# Altium schematic symbol library SCH - POWER - SWITCHMODE - TI TPS63700_DRC_10.SchLib: 1 symbol
Pins are listed as number, name and electrical type; pins without a type are passive.

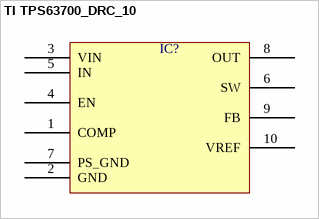
[diagram p0: symbol TI TPS63700_DRC_10]

## TI TPS63700_DRC_10
designator IC?  (value not drawn)
pins: 1 COMP, 2 GND, 3 VIN, 4 EN, 5 IN, 6 SW, 7 PS_GND, 8 OUT, 9 FB, 10 VREF